# EAGLE library part 74XX540 (library yapo)
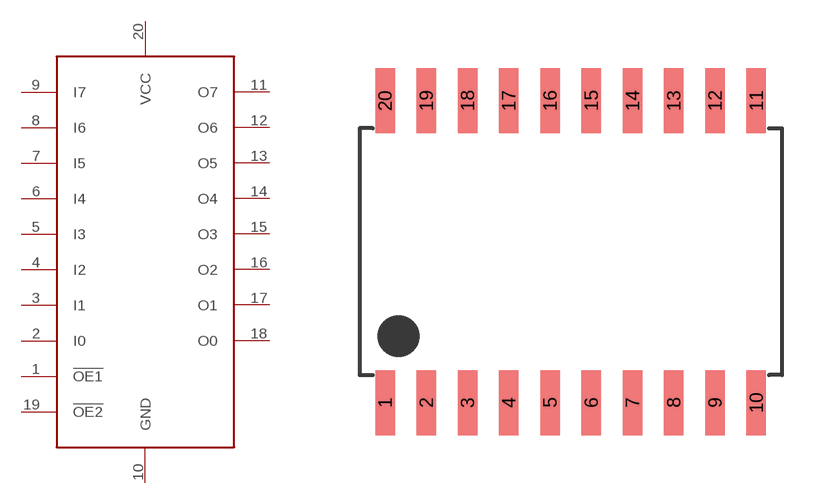
[diagram p19: symbol with the pads of SOIC-20W; footprint SOIC-20W]

Designator prefix -

## 74XX540  [SOIC-20W]
1  !OE1!
2  I0
3  I1
4  I2
5  I3
6  I4
7  I5
8  I6
9  I7
10  GND
11  O7
12  O6
13  O5
14  O4
15  O3
16  O2
17  O1
18  O0
19  !OE2!
20  VCC

## Footprint SOIC-20W (pad centres in mm)
smd 0.6 x 2: 1 -5.715,-4.65; 2 -4.445,-4.65; 3 -3.175,-4.65; 4 -1.905,-4.65; 5 -0.635,-4.65; 6 0.635,-4.65; 7 1.905,-4.65; 8 3.175,-4.65; 9 4.445,-4.65; 10 5.715,-4.65; 11 5.715,4.65; 12 4.445,4.65; 13 3.175,4.65; 14 1.905,4.65; 15 0.635,4.65; 16 -0.635,4.65; 17 -1.905,4.65; 18 -3.175,4.65; 19 -4.445,4.65; 20 -5.715,4.65